# Altium schematic symbol library IR.SchLib: 6 symbols
Pins are listed as number, name and electrical type; pins without a type are passive.

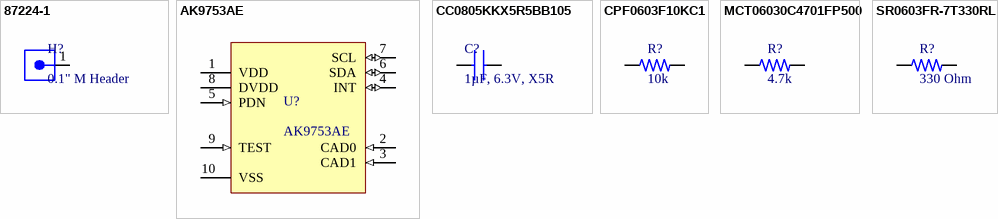
[diagram p0: symbols 87224-1 to SR0603FR-7T330RL]

## 87224-1
designator H?, comment 0.1" M Header
CONN HEADER VERT 1POS; Manufacturer: TE Connectivity; Manufacturer Part Number: 87224-1; Current Rating: 3A; Number of Positions: 1; Connector Type: Plug,Header,Pin; Voltage Rating: 750V; Gender: Male; Board Standoff: No (Without); High Speed Serial Data Connector: No; PCB Mount Retention: Without; PCB Mounting Orientation: Vertical; Pitch: 2.54mm; Contact Post Length: 0.125inch; PCB Thickness: 1.397mm; Approvals: CSA; Supplier 1: Digi-Key; RoHS: Yes; Category: Connectors; Stock 1: 5086; Pricing 1: 1=0.55000, 10=0.51300, 100=0.39310, 500=0.34182, 1000=0.28200, 5000=0.24782, 10000=0.23073 (USD); Mount: Through Hole; Housing Color: Black; Housing Material: Thermoplastic; Contact Shape: Square; Contact Material: Bronze; Contact Plating: Gold; Color: Black; Min Operating Temperature: -65°C; Max Operating Temperature: 105°C; Orientation: Straight; Termination: Through Hole; Number of Contacts: 1; Contact Protection: No (Without); Gasket: No (Without); High Temperature Housing: No; Keyed: No; Mating Alignment: No (Without); Mating Connector Lock: No (Without); Selectively Loaded: No (Without); Stabilizers: No (Without); Strain Relief: No (Without); Number of Rows: 1; Packaging: Carton; Package Quantity: 520; Contact Gender: Male; Contact Current Rating: 3A; Length: 14.83mm; Height: 10.37mm; Contact Mating Length: 8.08mm; Row Spacing: 2.54mm; Depth: 2.54mm; Flammability Rating: UL94 V-0; Lead Free: Lead Free; ELV: Compliant; REACH SVHC: Unknown; ComponentLink1URL: https://datasheet.ciiva.com/19461/840923-19461552.pdf?src-supplier=Jameco; ComponentLink1Description: https://datasheet.ciiva.com/19461/840923-19461552.pdf?src-supplier=Jameco; ComponentLink2URL: https://datasheet.ciiva.com/3118/eng-cs-1307819-section-5-0908-3118582.pdf?src-supplier=Avnet; ComponentLink2Description: https://datasheet.ciiva.com/3118/eng-cs-1307819-section-5-0908-3118582.pdf?src-supplier=Avnet; ComponentLink3URL: https://datasheet.ciiva.com/16686/eng-cs-1307819-section-5-0908-16686860.pdf?src-supplier=Avnet+Europe; ComponentLink3Description: https://datasheet.ciiva.com/16686/eng-cs-1307819-section-5-0908-16686860.pdf?src-supplier=Avnet+Europe; ComponentLink4URL: https://datasheet.ciiva.com/709/eng-cd-87224-l3-709782.pdf?src-supplier=Digi-Key; ComponentLink4Description: https://datasheet.ciiva.com/709/eng-cd-87224-l3-709782.pdf?src-supplier=Digi-Key; ComponentLink5URL: https://datasheet.ciiva.com/30252/eng-ds-1307819-ampmodu-0811-30252206.pdf?src-supplier=Onlinecomponents.com; ComponentLink5Description: https://datasheet.ciiva.com/30252/eng-ds-1307819-ampmodu-0811-30252206.pdf?src-supplier=Onlinecomponents.com; Supplier Part Number 1: A26541-ND
footprint HDRV1W68P0_1X1_213X213X1036
pins: 1

## AK9753AE
designator U?
IC 4CH IR SENSOR I2C 10SON; Manufacturer: AKM Semiconductor; Supplier 1: Digi-Key; Manufacturer Part Number: AK9753AE; RoHS: No; Category: Sensors; Stock 1: 1905; Pricing 1: 1=10.55000, 5=9.25000, 10=8.32500, 25=7.40000, 50=6.84500, 100=5.92000, 500=5.55000 (USD); Mount: Surface Mount; Case/Package: SMD/SMT; Min Operating Temperature: -30°C; Max Operating Temperature: 85°C; Output Type: I2C; Packaging: Cut Tape; Supplier Part Number 1: 974-1157-1-ND
footprint SON65P460X114-10N (SON, 10-Leads, Body 3.80x4.60mm, Pitch 0.65mm, IPC Medium Density)
pins: 1 VDD (power) "Analog Power Supply Pin", 2 CAD0 (in) "Slave address 0. CAD0 pin should be connected to VDD or VSS. Set up an address so that two or more same address of devices do not exist on the same bus.", 3 CAD1 (in) ""Slave address 1. CAD0 pin should be connected to VDD or VSS. Set up an address so / that two or more same address of devices do not exist on the same bus."", 4 INT (io) ""Functions are selected by INTEN register. INT pin goes “Active”, when the ADC output are ready to be read or the differential signal of two IR sensor(one observes the upper (or left)side and another observes lower (or right) side) exceeds threshold levels. It is composed of an open drain output (N-type transistor). INT pin is connected to DVDD voltage through a pull-up resister, with other open drain or open collector output of the / other devices to form “wired-OR”."", 5 PDN (in) "Power down pin. When PDN pin= “H”, AK9753 can operate. PDN pin is not connected to VDD (or VSS) through a pull-up (or pull-down) resister. This pin must be connected to “H” or “L” voltage level.", 6 SDA (io) ""I2C Data Output Pin. SDA is a bidirectional pin which is used to transmit data into and out of the device. It is composed of a signal input and an open drain output (N-type / transistor). SDA is connected to DVDD voltage through a pull-up resistor, and to open drain outputs or open collector outputs of the other devices as “wired-OR”"", 7 SCL (io) ""I2C Clock Input pin. Signal processing is executed at the rising and falling edge of SCL / clock. Observe rise time tR and fall time tF. SCL is connected to DVDD voltage through a pull-up resistor."", 8 DVDD (power) "Digital I/F Power Supply pin.", 9 TEST (in) "Test pin. TEST pin should be connected to VSS.", 10 VSS (power) "Ground pin."

## CC0805KKX5R5BB105
designator C?, comment 1µF, 6.3V, X5R
CAP CER 1UF 6.3V X5R 0805; Manufacturer: Yageo; Manufacturer Part Number: CC0805KKX5R5BB105; Tolerance: 10%; Supplier 1: Digi-Key; RoHS: Yes; Category: Ceramic Capacitors; Stock 1: 1698; Pricing 1: 1=0.19000, 10=0.12900, 50=0.07740, 100=0.06540, 500=0.04474, 1000=0.03957 (USD); Mount: Surface Mount; Case/Package: 0805; Min Operating Temperature: -55°C; Max Operating Temperature: 85°C; Packaging: Tape and Reel; Capacitance: 1uF; Voltage Rating: 6.3V; Voltage Rating (DC): 6.3V; Dielectric: X5R; Length: 0.079inch; Width: 0.049inch; Thickness: 0.057inch; Lead Free: Lead Free; Halogen Free: Halogen Free; ComponentLink1URL: http://www.yageo.com/documents/recent/UPY-GPHC_X5R_4V-to-50V_25.pdf?src-supplier=Digi-Key; ComponentLink1Description: http://www.yageo.com/documents/recent/UPY-GPHC_X5R_4V-to-50V_25.pdf?src-supplier=Digi-Key; ComponentLink2URL: http://www.yageo.com/documents/recent/UPY-GPHC_X5R_4V-to-50V_23.pdf?src-supplier=Digi-Key; ComponentLink2Description: http://www.yageo.com/documents/recent/UPY-GPHC_X5R_4V-to-50V_23.pdf?src-supplier=Digi-Key; Supplier Part Number 1: 311-3417-1-ND
footprint CAPC2012X14N (Chip Capacitor, 2-Leads, Body 2.00x1.25mm, IPC Medium Density)
pins: 1, 2

## CPF0603F10KC1
designator R?, comment 10k
Res Thin Film 0603 10K Ohm 1% 1/16W ±50ppm/°C Molded SMD SMD Paper T/R; Manufacturer: TE Connectivity Neohm; Manufacturer Part Number: CPF0603F10KC1; Resistance: 10kR; Power Rating: 63mW; Voltage Rating: 50V; Number of Resistors: 1; Supplier 1: Digi-Key; RoHS: Yes; Category: Chip SMD Resistors; Stock 1: 42911; Pricing 1: 1=0.17000, 10=0.14400, 100=0.05630 (USD); Mount: Surface Mount; Case/Package: 0603; Number of Pins: 2; Case Code (Metric): 1608; Case Code (Imperial): 0603; Min Operating Temperature: -55°C; Max Operating Temperature: 155°C; Tolerance: 1%; Packaging: Tape and Reel; Resistor Type: Thin Film; Temperature Coefficient: 50ppm/°C; Number of Terminations: 2; Termination: Solder; Voltage Rating (DC): 50V; Width: 0.8mm; Radiation Hardening: No; REACH SVHC: Unknown; ELV: Compliant; ComponentLink1URL: https://datasheet.ciiva.com/7789/eng-ds-1773200-j-7789563.pdf?src-supplier=Element14; ComponentLink1Description: https://datasheet.ciiva.com/7789/eng-ds-1773200-j-7789563.pdf?src-supplier=Element14; ComponentLink2URL: https://datasheet.ciiva.com/22692/1786775-22692861.pdf?src-supplier=Element14; ComponentLink2Description: https://datasheet.ciiva.com/22692/1786775-22692861.pdf?src-supplier=Element14; ComponentLink3URL: https://datasheet.ciiva.com/24494/29261eng-ds-1773200-f-24494553.pdf?src-supplier=Onlinecomponents.com; ComponentLink3Description: https://datasheet.ciiva.com/24494/29261eng-ds-1773200-f-24494553.pdf?src-supplier=Onlinecomponents.com; Supplier Part Number 1: A102203CT-ND
footprint RESC1508X06N_10K (10k ohm, Chip Resistor, 2-Leads, Body 1.55x0.80mm, IPC Medium Density)
pins: 1, 2

## MCT06030C4701FP500
designator R?, comment 4.7k
RES SMD 4.7K OHM 1% 1/8W 0603; Manufacturer: Vishay Beyschlag; Manufacturer Part Number: MCT06030C4701FP500; Max Power Dissipation: 125mW; Temperature Coefficient: 50ppm/°C; Voltage Rating (DC): 75V; Resistance: 4.7kR; Supplier 1: Digi-Key; RoHS: Yes; Category: Chip SMD Resistors; Stock 1: 67430; Pricing 1: 1=0.16000, 10=0.13200, 100=0.05160, 1000=0.02160, 2500=0.01980 (USD); Mount: Surface Mount; Case/Package: 0603; Contact Plating: Tin; Case Code (Imperial): 0603; Case Code (Metric): 1608; Min Operating Temperature: -55°C; Max Operating Temperature: 125°C; Tolerance: 1%; Packaging: Tape and Reel; Power Rating: 125mW; Package Quantity: 1; Resistor Type: Thin Film; Number of Terminations: 2; Voltage Rating: 75V; Length: 1.55mm; Height: 0.022inch; Width: 0.033inch; Depth: 0.85mm; Radiation Hardening: No; Lead Free: Lead Free; Military Standard: Not; REACH SVHC: No SVHC; ComponentLink1URL: https://datasheet.ciiva.com/8897/mc-pro-8897829.pdf?src-supplier=Avnet; ComponentLink1Description: https://datasheet.ciiva.com/8897/mc-pro-8897829.pdf?src-supplier=Avnet; ComponentLink2URL: https://datasheet.ciiva.com/2525/mc-pro-2525199.pdf?src-supplier=Digi-Key; ComponentLink2Description: https://datasheet.ciiva.com/2525/mc-pro-2525199.pdf?src-supplier=Digi-Key; ComponentLink3URL: https://datasheet.ciiva.com/16452/mc-pro-16452668.pdf?src-supplier=Future+Electronics; ComponentLink3Description: https://datasheet.ciiva.com/16452/mc-pro-16452668.pdf?src-supplier=Future+Electronics; ComponentLink4URL: https://datasheet.ciiva.com/2525/mc-pro-2525197.pdf?src-supplier=Digi-Key; ComponentLink4Description: https://datasheet.ciiva.com/2525/mc-pro-2525197.pdf?src-supplier=Digi-Key; ComponentLink5URL: https://datasheet.ciiva.com/2525/mc-pro-2525198.pdf?src-supplier=Digi-Key; ComponentLink5Description: https://datasheet.ciiva.com/2525/mc-pro-2525198.pdf?src-supplier=Digi-Key; Supplier Part Number 1: MCT0603-4.70K-CFCT-ND
footprint RESC1608X06N_4_7 (4.7k ohm, Chip Resistor, 2-Leads, Body 1.55x0.85mm, IPC Medium Density)
pins: 1, 2

## SR0603FR-7T330RL
designator R?, comment 330 Ohm
RES SMD 0603 1/4W 1% 330 OHM; Manufacturer: Yageo; Manufacturer Part Number: SR0603FR-7T330RL; Supplier 1: Digi-Key; RoHS: No; Category: Chip SMD Resistors; Stock 1: 4990; Pricing 1: 1=0.71000, 10=0.52500, 100=0.30570, 1000=0.17143, 2500=0.16797 (USD); ComponentLink1URL: http://www.yageo.com/documents/recent/PYu-SR_D_F%20tol_RoHS_L_3.pdf?src-supplier=Digi-Key; ComponentLink1Description: http://www.yageo.com/documents/recent/PYu-SR_D_F%20tol_RoHS_L_3.pdf?src-supplier=Digi-Key; Supplier Part Number 1: YAG5835CT-ND
footprint RESC1608X06N_330 (330 ohm, Chip Resistor, 2-Leads, Body 1.60x0.80mm, IPC Medium Density)
pins: 1, 2